# Altium footprint library SimpleFOC.PcbLib: 17 footprints (part 1 of 2)
Each footprint in its own frame and in the unit in brackets; x right, y up, seen from the top. Pads: shape width x height; smd on the part's side, far side on the other; paste and mask are expansions set on the pad; w line width, h text height; cw(c..) or ccw(c..) is an arc to the next point about the centre after c.
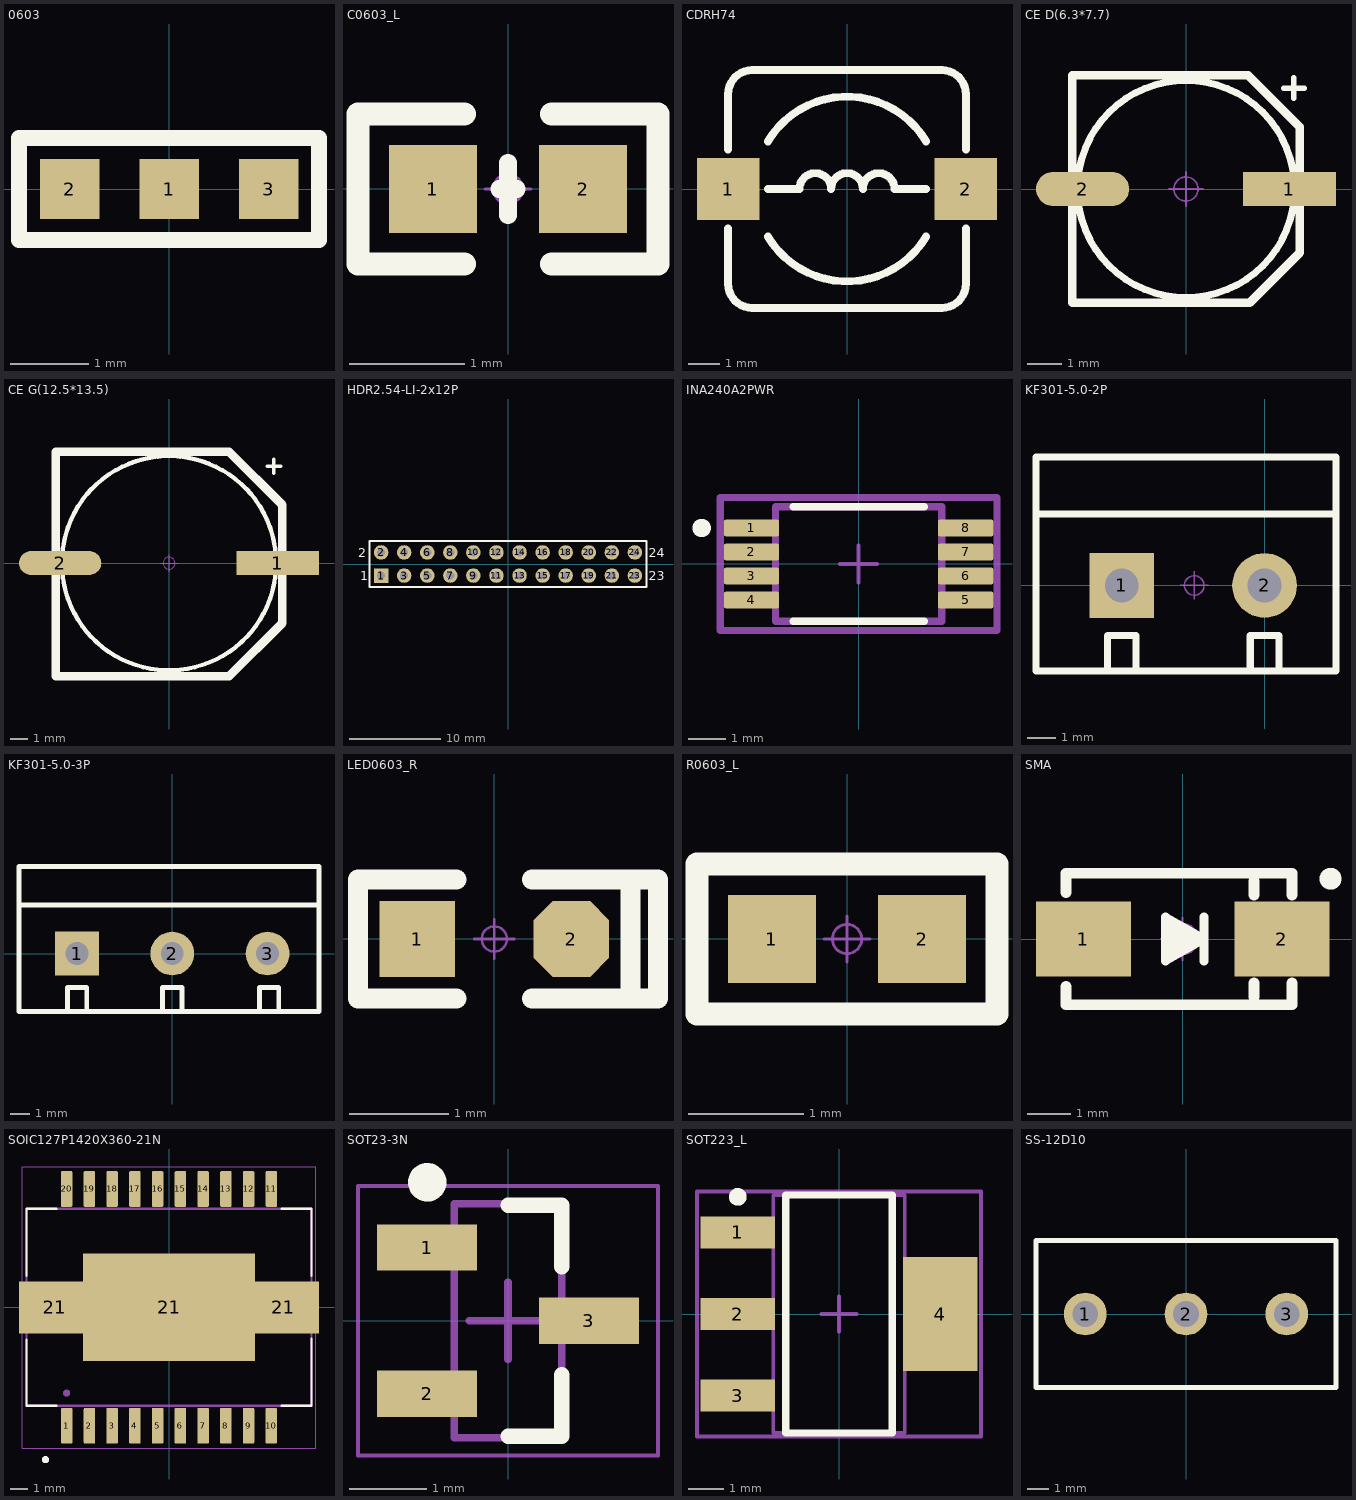
[diagram p0: the footprints below, top view; thin cyan lines are the x and y axes]

## 0603 [mil] "0603测试点"
height 59.06
pads (3):
  rect 30x30 smd: 1(0,0) 2(-50,0) 3(50,0)
Top Overlay:
  lines w8: -75.59,-25.59 -75.59,25.59 75.3,25.59 75.3,-25.59 -75.59,-25.59

## C0603_L [mil] "无极性贴片电容"
height 59.06
pads (2):
  rect 30x30 smd: 1(-25.59,0) 2(25.59,0)
Top Overlay:
  lines w6: -3,0 0,0 3,0 ; 0,-9 0,9
  lines w8: -15,-25.59 -51.18,-25.59 -51.18,25.59 -15,25.59 ; 15,-25.59 51.18,-25.59 51.18,25.59 15,25.59
Mechanical 15:
  circle w1: c0,0 r5
  lines w1: -7.87,0 7.87,0 ; 0,-7.87 0,7.87
3D body "C 0603.STEP": height 32.89, standoff 0.61, extent -31.49,-16.14 31.5,16.14

## CDRH74 [mm] "7.3*7.3*4.5mm（长宽高）"
height 1.5
pads (2):
  rect 2x2 smd: 1(-3.81,0) 2(3.81,0)
Top Overlay:
  lines w0.254: -3.81,-1.27 -3.81,-3.048 ccw(c-3.048,-3.048) -3.048,-3.81 3.048,-3.81 ccw(c3.048,-3.048) 3.81,-3.048 3.81,-1.27 ; -3.81,1.27 -3.81,3.048 cw(c-3.048,3.048) -3.048,3.81 3.048,3.81 cw(c3.048,3.048) 3.81,3.048 3.81,1.27 ; -2.54,-1.524 ccw(c0,0) 2.54,-1.524 ; -2.54,0 -1.524,0 cw(c-1.016,0) -0.508,0 cw(c0,0) 0.508,0 cw(c1.016,0) 1.524,0 2.54,0 ; -2.54,1.524 cw(c0,0) 2.54,1.524
3D body "CDRH74.STEP": height 4.52, standoff 0.02, extent -3.65,-3.65 3.65,3.65

## CE D(6.3*7.7) [mm] "贴片电解电容，直径6.3mm，高7.7mm"
height 1.5
pads (2):
  rect 2.7x1 smd: 1(3,0)
  oval 2.7x1 smd: 2(-3,0)
Top Overlay:
  circle w0.2: c0,0 r3.15
  lines w0.152: 2.829,2.925 3.429,2.925 ; 3.125,2.625 3.125,3.229
  lines w0.254: -3.3,-3.3 -3.3,3.3 1.8,3.3 3.3,1.8 3.3,-1.85 1.85,-3.3 -3.3,-3.3
Mechanical 15:
  circle w0.05: c0,0 r0.35
  lines w0.05: -0.5,0 0.5,0 ; 0,-0.5 0,0.5
3D body "CE_SMD_d_6_3x7_7.STEP": height 7.75, standoff 0.04, extent -3.5,-3.3 3.5,3.3

## CE G(12.5*13.5) [mm] "贴片电解电容，直径12.5mm，高13.5mm"
height 1.5
pads (2):
  rect 4.8x1.4 smd: 1(6.35,0)
  oval 4.8x1.4 smd: 2(-6.35,0)
Top Overlay:
  circle w0.254: c0,0 r6.25
  lines w0.2: 5.725,5.65 6.525,5.65 ; 6.121,5.25 6.121,6.05
  lines w0.508: -6.6,-6.6 -6.6,6.5 3.5,6.5 6.6,3.4 6.6,-3.5 3.5,-6.6 -6.6,-6.6
Mechanical 15:
  circle w0.05: c0,0 r0.35
  lines w0.05: -0.5,0 0.5,0 ; 0,-0.5 0,0.5
3D body "CE_SMD_g_12_5x13_5.STEP": height 13.58, standoff 0.07, extent -7.15,-6.5 7.15,6.5

## HDR2.54-LI-2x12P [mm] "双排排针，12x2脚"
height 1.5
pads (24):
  rect 1.6x1.6 hole 0.9: 1(-13.97,-1.27)
  round 1.6 hole 0.9: 2(-13.97,1.27) 3(-11.43,-1.27) 4(-11.43,1.27) 5(-8.89,-1.27) 6(-8.89,1.27) 7(-6.35,-1.27) 8(-6.35,1.27) 9(-3.81,-1.27) 10(-3.81,1.27) 11(-1.27,-1.27) 12(-1.27,1.27) 13(1.27,-1.27) 14(1.27,1.27) 15(3.81,-1.27) 16(3.81,1.27) 17(6.35,-1.27) 18(6.35,1.27) 19(8.89,-1.27) 20(8.89,1.27) 21(11.43,-1.27) 22(11.43,1.27) 23(13.97,-1.27) 24(13.97,1.27)
Top Overlay:
  lines w0.2: -15.24,-2.54 15.24,-2.54 15.24,2.54 -15.24,2.54 -15.24,-2.54
  text "24" at 15.494,0.762 h1.02
  text "23" at 15.494,-1.778 h1.02
  text "2" at -16.51,0.762 h1.02
  text "1" at -16.256,-1.778 h1.02
3D body "HDR2.54-1x2P.STEP": height 8.5, standoff -3, extent 10.16,-2.54 12.7,2.54
3D body "HDR2.54-1x2P.STEP": height 8.5, standoff -3, extent 12.7,-2.54 15.24,2.54
3D body "HDR2.54-1x2P.STEP": height 8.5, standoff -3, extent 5.08,-2.54 7.62,2.54
3D body "HDR2.54-1x2P.STEP": height 8.5, standoff -3, extent 7.62,-2.54 10.16,2.54
3D body "HDR2.54-1x2P.STEP": height 8.5, standoff -3, extent 0,-2.54 2.54,2.54
3D body "HDR2.54-1x2P.STEP": height 8.5, standoff -3, extent 2.54,-2.54 5.08,2.54
3D body "HDR2.54-1x2P.STEP": height 8.5, standoff -3, extent -5.08,-2.54 -2.54,2.54
3D body "HDR2.54-1x2P.STEP": height 8.5, standoff -3, extent -2.54,-2.54 0,2.54
3D body "HDR2.54-1x2P.STEP": height 8.5, standoff -3, extent -10.16,-2.54 -7.62,2.54
3D body "HDR2.54-1x2P.STEP": height 8.5, standoff -3, extent -7.62,-2.54 -5.08,2.54
3D body "HDR2.54-1x2P.STEP": height 8.5, standoff -3, extent -15.24,-2.54 -12.7,2.54
3D body "HDR2.54-1x2P.STEP": height 8.5, standoff -3, extent -12.7,-2.54 -10.16,2.54

## INA240A2PWR [mm]
height 1.5
pads (8):
  rrect22% 1.5x0.45 smd paste+0 mask+0: 1(-2.9,0.975) 2(-2.9,0.325) 3(-2.9,-0.325) 4(-2.9,-0.975) 5(2.9,-0.975) 6(2.9,-0.325) 7(2.9,0.325) 8(2.9,0.975)
Top Overlay:
  circle w0.25: c-4.25,0.975 r0.125
  lines w0.2: -1.775,-1.55 1.775,-1.55 ; -1.775,1.55 1.775,1.55
Top 3D Body:
  lines w0.2: -2.25,-1.55 -2.25,1.55 2.25,1.55 2.25,-1.55 -2.25,-1.55
Top Courtyard:
  lines w0.2: -3.75,-1.8 -3.75,1.8 3.75,1.8 3.75,-1.8 -3.75,-1.8
Top Assembly:
  lines w0.2: -3.75,-1.8 -3.75,1.8 3.75,1.8 3.75,-1.8 -3.75,-1.8
Top Component Center:
  lines w0.1: -0.5,0 0.5,0 ; 0,-0.5 0,0.5
3D body "IC_Texas_Instruments_INA240A2PWR_eec.STEP": height 0.25, standoff 0, extent -3.75,-1.8 3.75,1.8

## KF301-5.0-2P [mm] "可拼接端子/6A"
height 1.5
pads (2):
  rect 2.3x2.3 hole 1.2: 1(-5.08,0)
  round 2.3 hole 1.2: 2(0,0)
Top Overlay:
  lines w0.254: -8.128,2.54 2.54,2.54 ; -5.588,-3.048 -5.588,-1.778 -4.572,-1.778 -4.572,-3.048 ; -0.508,-3.048 -0.508,-1.778 0.508,-1.778 0.508,-3.048 ; -8.128,-3.048 2.54,-3.048 2.54,4.572 -8.128,4.572 -8.128,-3.048
Mechanical 15:
  circle w0.05: c-2.5,0 r0.35
  lines w0.05: -3,0 -2,0 ; -2.5,-0.5 -2.5,0.5
3D body "KF301.STEP": height 3.29, standoff -10.51, extent -7.95,-3 -2.45,4.6
3D body "KF301.STEP": height 3.29, standoff -10.51, extent -2.95,-3 2.55,4.6

## KF301-5.0-3P [mm] "可拼接端子/6A"
height 1.5
pads (3):
  rect 2.3x2.3 hole 1.2: 1(-5,0)
  round 2.3 hole 1.2: 2(0,0) 3(5,0)
Top Overlay:
  lines w0.254: -8.048,2.54 7.7,2.54 ; -5.508,-3.048 -5.508,-1.778 -4.492,-1.778 -4.492,-3.048 ; -0.508,-3.048 -0.508,-1.778 0.508,-1.778 0.508,-3.048 ; 4.572,-3.048 4.572,-1.778 5.588,-1.778 5.588,-3.048 ; -8.048,-3.048 -8.048,4.572 7.7,4.572 7.7,-3.048 -8.048,-3.048
Mechanical 15:
  circle w0.05: c0,0 r0.35
  lines w0.05: -0.5,0 0.5,0 ; 0,-0.5 0,0.5
3D body "KF301.STEP": height 3.29, standoff -10.51, extent 2.05,-3 7.55,4.6
3D body "KF301.STEP": height 3.29, standoff -10.51, extent -2.95,-3 2.55,4.6
3D body "KF301.STEP": height 3.29, standoff -10.51, extent -7.95,-3 -2.45,4.6

## LED0603_R [mil] "红色0603LED"
height 59.06
pads (2):
  rect 30x30 smd: 1(-30.59,0)
  oct 30x30 smd: 2(30.59,0)
Top Overlay:
  lines w8: -15.01,-23.63 -54.14,-23.63 -54.14,23.62 -15.01,23.62 ; 14.99,-23.63 65,-23.63 65,23.62 14.99,23.62 ; 54.13,-23.63 54.13,23.62
Mechanical 15:
  circle w1: c0,0 r5
  lines w1: -7.88,0 7.87,0 ; 0,-7.88 0,7.87
3D body "LED_0603-R.STEP": height 18.33, standoff -0.04, extent -31.5,-15.79 31.49,15.79
3D body "LED 0603玻璃罩.STEP": height 23.82, standoff 8.07, extent -23.63,-15.75 23.62,15.74

## R0603_L [mil] "1/10W贴片电阻"
height 59.06
pads (2):
  rect 30x30 smd: 1(-25.59,0) 2(25.59,0)
Top Overlay:
  lines w8: -51.18,-25.59 -51.18,25.59 51.18,25.59 51.18,-25.59 -51.18,-25.59
Mechanical 15:
  circle w1: c0,0 r5
  lines w1: -7.87,0 7.87,0 ; 0,-7.87 0,7.87
3D body "R0603.STEP": height 15.79, standoff 0, extent -31.49,-15.74 31.5,15.75

## SMA [mm] "4.5x2.6*2.2mm（长宽高，不包括引脚）"
height 2.54
pads (2):
  rect 2.2x1.75 smd: 1(-2.3,0) 2(2.3,0)
Top Overlay:
  circle w0.254: c3.429,1.397 r0.127
  lines w0.203: 0.494,-0.508 0.494,0.508 ; -0.395,-0.508 -0.395,0.508 0.494,0 -0.395,-0.508
  lines w0.254: -2.7,-1.105 -2.7,-1.524 2.54,-1.524 2.54,-1.016 ; -2.7,1.08 -2.7,1.524 2.54,1.524 2.54,1.016 ; -0.33,0.305 0.305,0 -0.254,-0.305 -0.254,0.051 0.023,0 ; 1.651,-1.35 1.651,-1.016 ; 1.651,1.016 1.651,1.35
Mechanical 15:
  circle w0.05: c0,0 r0.35
  lines w0.05: -0.5,0 0.5,0 ; 0,-0.5 0,0.5
3D body "SMA.stp": height 2.15, standoff 0.05, extent -2.552,-1.3 2.552,1.3

## SOIC127P1420X360-21N [mm]
height 1.5
pads (23):
  rrect16% 0.63x1.99 smd: 1(-5.715,-6.61) 2(-4.445,-6.61) 3(-3.175,-6.61) 4(-1.905,-6.61) 5(-0.635,-6.61) 6(0.635,-6.61) 7(1.905,-6.61) 8(3.175,-6.61) 9(4.445,-6.61) 10(5.715,-6.61) 11(5.715,6.61) 12(4.445,6.61) 13(3.175,6.61) 14(1.905,6.61) 15(0.635,6.61) 16(-0.635,6.61) 17(-1.905,6.61) 18(-3.175,6.61) 19(-4.445,6.61) 20(-5.715,6.61)
  rect 4x2.9 smd paste-3: 21(-6.375,0) 21(6.375,0)
  rect 9.6x6 smd paste-6: 21(0,0)
Top Overlay:
  circle w0.2: c-6.9,-8.5 r0.1
  lines w0.127: -7.95,-1.8 -7.95,-5.5 -6.3,-5.5 ; -7.95,1.75 -7.95,5.5 -6.3,5.5 ; 6.3,-5.5 7.95,-5.5 7.95,-1.75 ; 6.3,5.5 7.95,5.5 7.95,1.75
Mechanical 13:
  circle w0.2: c-5.715,-4.79 r0.1
  lines w0.127: -7.95,-5.5 -7.95,5.5 7.95,5.5 7.95,-5.5 -7.95,-5.5
Mechanical 15:
  lines w0.05: -8.2,-7.86 -8.2,7.86 8.2,7.86 8.2,-7.86 -8.2,-7.86
3D body "L6234PD.STEP": height 3.5, standoff -0.15, extent -8.26,-7.25 7.74,7.25
3D body "L6234PD.STEP": height 3.3, standoff -0.35, extent -7.25,-7.73 7.25,8.27
3D body "L6234PD.STEP": height 3.3, standoff -0.35, extent -8.2,-7.3 7.8,7.2

## SOT23-3N [mm] "SOT23, 3-Leads, Body 2.9x1.3mm, Pitch 0.95mm, Lead Span 2.4mm, IPC Medium Density"
height 1.12
pads (3):
  rect 1.3x0.6 smd: 1(-1.05,0.95) 2(-1.05,-0.95) 3(1.05,0)
Top Overlay:
  circle w0.25: c-1.05,1.8 r0.125
  lines w0.2: 0,-1.5 0.7,-1.5 0.7,-0.7 ; 0,1.5 0.7,1.5 0.7,0.7
Mechanical 13:
  lines w0.1: -0.7,-1.52 -0.7,1.52 0.7,1.52 0.7,-1.52 -0.7,-1.52
Mechanical 15:
  lines w0.05: -1.95,-1.75 -1.95,1.75 1.95,1.75 1.95,-1.75 -1.95,-1.75
  lines w0.1: -0.5,0 0.5,0 ; 0,-0.5 0,0.5
3D body "SOT23-3-2.STEP": height 1.05, standoff 0, extent -1.2,-1.5 1.2,1.5

## SOT223_L [mm] "SOT223, 4-Leads, Body 6.5x3.5mm, Pitch 2.3mm, Lead Span 7mm, IPC High Density"
height 1.7
pads (4):
  rect 2.1x0.9 smd: 1(-2.85,2.3) 2(-2.85,0) 3(-2.85,-2.3)
  rect 2.1x3.2 smd: 4(2.85,0)
Top Overlay:
  circle w0.25: c-2.85,3.3 r0.125
  lines w0.2: -1.5,-3.35 1.5,-3.35 1.5,3.35 -1.5,3.35 -1.5,-3.35
Mechanical 13:
  lines w0.1: -1.85,-3.35 1.85,-3.35 1.85,3.35 -1.85,3.35 -1.85,-3.35
Mechanical 15:
  lines w0.1: -0.5,0 0.5,0 ; 0,-0.5 0,0.5 ; -4,-3.45 4,-3.45 4,3.45 -4,3.45 -4,-3.45
3D body: height 1.7, standoff 0, extent -1.85,-3.35 1.85,3.35

## SS-12D10 [mm] "脚距3mm      淘宝ID:黄晶宝石"
height 1.5
pads (3):
  round 2 hole 1.2: 1(-4.7,0) 2(0,0) 3(4.7,0)
Top Overlay:
  lines w0.254: -7,-3.429 -7,3.429 7,3.429 7,-3.429 -7,-3.429
3D body "SW-SLB12814.STEP": height 9.65, standoff -2.6, extent -7,-3.1 7,3.1